# Altium schematic symbol library CUSTOM TNY290PG.SchLib: 175 symbols (part 2 of 3)
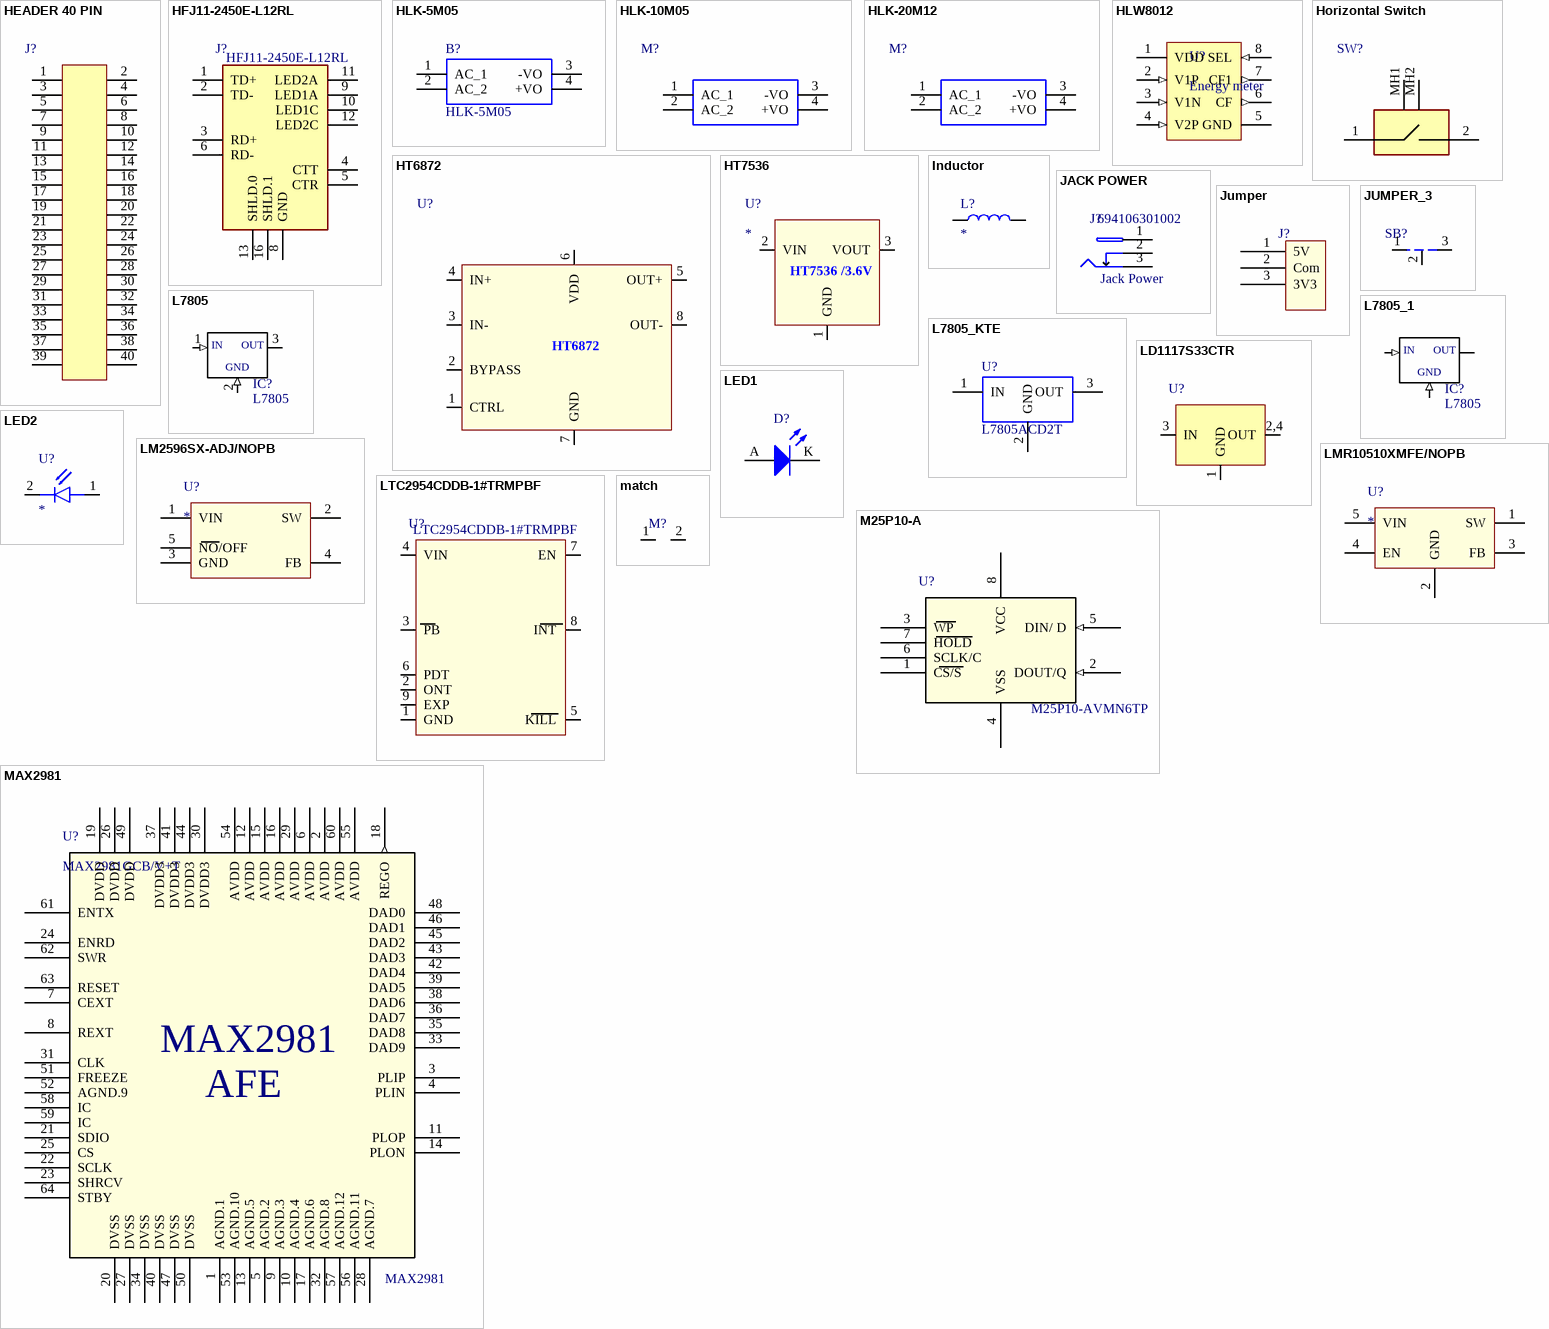
[diagram p7: symbols HEADER 40 PIN to MAX2981]

## JACK POWER
designator J?  Manufacturer Part Number: 694106301002  Connector Type: Jack Power
CONN PWR JACK 2.1X5.5MM SOLDER; Manufacturer: Wurth Electronics; Gender: Male; Shielding: Unshielded; Current Rating: 5A; Voltage Rating: 24V; Insulation Resistance: 100MR; Voltage Rating (DC): 20V; Supplier 1: Digi-Key; Stock 1: 3331; Pricing 1: 1=0.96, 10=0.908, 50=0.811, 100=0.746, 500=0.648, 1000=0.551 (USD); Mount: Through Hole; Contact Plating: Tin; Color: Black; Contact Material: Copper Alloy; Housing Material: Polyamide; Min Operating Temperature: -40°C; Max Operating Temperature: 85°C; Packaging: Bulk; Termination: Through Hole; Contact Gender: Female; Package Quantity: 500; REACH SVHC: Unknown; Flammability Rating: UL94 V-0; ComponentLink1URL: https://katalog.we-online.de/em/datasheet/6941xx301002.pdf?src-supplier=Digi-Key; ComponentLink1Description: https://katalog.we-online.de/em/datasheet/6941xx301002.pdf?src-supplier=Digi-Key; ComponentLink2URL: http://www.farnell.com/cad/2130967.pdf?src-supplier=Element14; ComponentLink2Description: http://www.farnell.com/cad/2130967.pdf?src-supplier=Element14; ComponentLink3URL: http://www.mouser.com/ds/2/445/6941xx301002-469315.pdf?src-supplier=Mouser; ComponentLink3Description: http://www.mouser.com/ds/2/445/6941xx301002-469315.pdf?src-supplier=Mouser; Supplier Part Number 1: 732-5930-ND
footprint 12V_PWR JACK (2.5 mm DC female jack)
pins: 1, 2, 3

## Jumper
designator J?
footprint Jumper (Chip Capacitor, Body 2.0x1.3mm, IPC High Density)
pins: 1 5V, 2 Com, 3 3V3

## JUMPER_3
designator SB?
footprint RESC0603-JUMPER_3
pins: 1, 2, 3

## L7805
designator IC?
MF: STMicroelectronics; Price: None; MP: L7805; SnapEDA_Link: https://www.snapeda.com/parts/L7805/STMicroelectronics/view-part/?ref=snap; Availability: Unavailable; Package: None; Value: *
footprint L7805
pins: 1 IN (in), 2 GND (in), 3 OUT

## L7805_1
designator IC?, comment L7805
MF: STMicroelectronics; Availability: Unavailable; Price: None; Package: None; MP: L7805; SnapEDA_Link: https://www.snapeda.com/parts/L7805/STMicroelectronics/view-part/?ref=snap; Value: *
footprint L7805
pins: 1 IN (in), 2 GND (in), 3 OUT

## L7805_KTE
designator U?, comment L7805ACD2T
Linear Voltage Regulators 5.0V 1.0A Positive; Mfr. No: L7805; Value: 5V Regulator; Package: KTE
footprint L7805_KTE
pins: 1 IN, 2 GND, 3 OUT

## LD1117S33CTR
designator U?
LDO Voltage Regulators 3.3V 0.8A Positive; Manufacturer 1: STMicroelectronics; Manufacturer Part Number 1: LD1117S33CTR; Accuracy: 1%; Input Bias Current: 5mA; Number of Regulators: 1; Quiescent Current: 10mA; Power Dissipation: 12W; Output Current: 950mA; Min Input Voltage: 5.3V; Dropout Voltage: 1.1V; Max Output Current: 1.3A; Max Input Voltage: 15V; Output Type: Fixed; Supplier 1: Digi-Key; RoHS: Yes; Category: Voltage Regulators - Linear; Stock 1: 40691; Pricing 1: 1=0.41000, 10=0.35100, 25=0.32720, 100=0.24310, 250=0.20572, 500=0.19636, 1000=0.14493 (USD); Mount: Surface Mount; Case/Package: SOT-223; Number of Pins: 4; Weight: 0.01lb; Contact Plating: Tin,Matte; Number of Terminals: 4; Min Operating Temperature: -40°C; Max Operating Temperature: 125°C; Output Voltage Accuracy: 1%; Polarity: Positive; Min Output Voltage: 3.3V; Max Output Voltage: 3.3V; Termination: SMD/SMT; Number of Outputs: 1; Output Voltage: 3.3V; Packaging: Tape and Reel; Nominal Output Voltage: 3.3V; Package Quantity: 1; Max Power Dissipation: 12W; Max Supply Voltage: 15V; Min Supply Voltage: 3.3V; Length: 6.5mm; Height: 1.8mm; Width: 3.5mm; Radiation Hardening: No; Lead Free: Lead Free; REACH SVHC: No SVHC; ComponentLink1URL: https://datasheet.ciiva.com/19480/1390223-19480586.pdf?src-supplier=Jameco; ComponentLink1Description: https://datasheet.ciiva.com/19480/1390223-19480586.pdf?src-supplier=Jameco; ComponentLink2URL: https://datasheet.ciiva.com/1511/1776449-1511572.pdf?src-supplier=Element14; ComponentLink2Description: https://datasheet.ciiva.com/1511/1776449-1511572.pdf?src-supplier=Element14; ComponentLink3URL: https://datasheet.ciiva.com/7992/1776449-7992620.pdf?src-supplier=Element14; ComponentLink3Description: https://datasheet.ciiva.com/7992/1776449-7992620.pdf?src-supplier=Element14; ComponentLink4URL: https://datasheet.ciiva.com/2041/cd00000544-2041934.pdf?src-supplier=Digi-Key; ComponentLink4Description: https://datasheet.ciiva.com/2041/cd00000544-2041934.pdf?src-supplier=Digi-Key; ComponentLink5URL: https://datasheet.ciiva.com/16392/cd00000544-16392069.pdf?src-supplier=Future+Electronics; ComponentLink5Description: https://datasheet.ciiva.com/16392/cd00000544-16392069.pdf?src-supplier=Future+Electronics; ComponentLink6URL: https://datasheet.ciiva.com/2041/cd00000544-2041932.pdf?src-supplier=Digi-Key; ComponentLink6Description: https://datasheet.ciiva.com/2041/cd00000544-2041932.pdf?src-supplier=Digi-Key; ComponentLink7URL: https://datasheet.ciiva.com/2041/cd00000544-2041933.pdf?src-supplier=Digi-Key; ComponentLink7Description: https://datasheet.ciiva.com/2041/cd00000544-2041933.pdf?src-supplier=Digi-Key; Supplier Part Number 1: 497-1241-1-ND
footprint AMS1117 (SOT223)
pins: 1 GND, 2 OUT, 3 IN, 4
text: 2,4

## LED1
designator D?
Typical RED GaAs LED; Published: 8-Jun-2000; LatestRevisionDate: 08-Jul-2005; LatestRevisionNote: Mech Layer 1 removed.; PackageReference: LED-1; Publisher: Altium Limited; PackageDescription: LED; 2 Leads
simulation model LED1 (Diode)
footprint LED_0603 ((1608) Metric)
pins: A, K

## LED2
designator U?
pins: 1 A, 2 K

## LM2596SX-ADJ/NOPB
designator U?
Buck Switching Regulator IC Positive Adjustable 1.2V 1 Output 3A TO-263-6, D²Pak (5 Leads + Tab), TO-263BA; Manufacturer: TI National Semiconductor; Manufacturer Part Number: LM2596SX-ADJ/NOPB; Number of Outputs: 1; Output Voltage: 37V; Min Input Voltage: 4.5V; Max Input Voltage: 40V; Switching Frequency: 173kHz; Efficiency: 73%; Synchronous Rectifier: No; Quiescent Current: 5mA; Supplier 1: Digi-Key; Stock 1: 1988; Pricing 1: 1=4.91, 10=4.413, 100=3.4299 (USD); Mount: Surface Mount; Case/Package: TO-263-5; Number of Pins: 5; Weight: 0.056128oz; Contact Plating: Tin,Matte; Min Operating Temperature: -40°C; Max Operating Temperature: 125°C; Package Quantity: 500; Max Output Current: 3A; Operating Supply Voltage: 40V; Output Current: 3A; Packaging: Tape and Reel; Min Supply Voltage: 4.5V; Min Output Voltage: 1.2V; Max Output Voltage: 37V; Output Type: Adjustable; Output Configuration: Positive; Length: 0.25inch; Height: 0.25inch; Width: 0.25inch; Radiation Hardening: No; Lead Free: Contains Lead; REACH SVHC: No SVHC; ComponentLink1URL: http://www.farnell.com/datasheets/1768026.pdf?src-supplier=Farnell; ComponentLink1Description: http://www.farnell.com/datasheets/1768026.pdf?src-supplier=Farnell; ComponentLink2URL: http://www.farnell.com/datasheets/1874590.pdf?src-supplier=Element14; ComponentLink2Description: http://www.farnell.com/datasheets/1874590.pdf?src-supplier=Element14; ComponentLink3URL: http://www.farnell.com/datasheets/1768026.pdf?src-supplier=Element14; ComponentLink3Description: http://www.farnell.com/datasheets/1768026.pdf?src-supplier=Element14; ComponentLink4URL: http://www.ti.com/lit/ds/symlink/lm2596.pdf?src-supplier=Digi-Key; ComponentLink4Description: http://www.ti.com/lit/ds/symlink/lm2596.pdf?src-supplier=Digi-Key; Supplier Part Number 1: 296-35399-1-ND
footprint TO-263
pins: 1 VIN, 2 SW, 3 GND, 4 FB, 5 NO/OFF

## LMR10510XMFE/NOPB
designator U?
3V-5.5Vin, 600mV-4.5Vout, 1Aout, SOT-23-5; Manufacturer: Texas Instruments; Manufacturer Part Number: LMR10510XMFE/NOPB; Max Input Voltage: 5.5V; Output Voltage: 4.5V; Min Input Voltage: 3V; Number of Outputs: 1; Switching Frequency: 1.6MHz; Max Output Current: 1A; Min Output Voltage: 600mV; Quiescent Current: 3.3mA; Output Type: Adjustable; Supplier 1: Mouser; Stock 1: 1253; Pricing 1: 1=1.33, 10=1.13, 100=0.871, 500=0.77, 1000=0.608, 2500=0.539, 10000=0.519, 25000=0.503, 50000=0.487 (USD); Mount: Surface Mount; Case/Package: SOT-23; Number of Pins: 5; Min Operating Temperature: -40°C; Max Operating Temperature: 125°C; Packaging: Tape and Reel; Max Output Voltage: 4.5V; Output Current: 1A; Package Quantity: 250; Length: 3.05mm; Height: 1.3mm; Width: 1.75mm; REACH SVHC: No SVHC; Lead Free: Lead Free; ComponentLink1URL: http://www.farnell.com/datasheets/1882450.pdf?src-supplier=Element14; ComponentLink1Description: http://www.farnell.com/datasheets/1882450.pdf?src-supplier=Element14; Supplier Part Number 1: 926-LMR10510XMFENOPB
pins: 1 SW, 2 GND, 3 FB, 4 EN, 5 VIN

## LTC2954CDDB-1#TRMPBF
designator U?  Manufacturer Part Number: LTC2954CDDB-1#TRMPBF
IC PUSH BUTTON ON/OFF CTRLR DFN-8; Manufacturer 1: Analog Devices / Linear Technology; Operating Supply Current: 6uA; Supplier 1: Digi-Key; RoHS: Yes; Category: Voltage Supervisors; Stock 1: 3877; Pricing 1: 1=4.56000, 25=2.59000, 100=2.52300 (USD); Case/Package: DFN-8; Number of Pins: 8; Min Operating Temperature: 0°C; Max Operating Temperature: 70°C; Package Quantity: 500; Packaging: Tape and Reel; Radiation Hardening: No; Lead Free: Lead Free; ComponentLink1URL: https://datasheet.ciiva.com/15134/getdatasheetpartid-369007-15134872.pdf?src-supplier=Verical; ComponentLink1Description: https://datasheet.ciiva.com/15134/getdatasheetpartid-369007-15134872.pdf?src-supplier=Verical; ComponentLink2URL: https://datasheet.ciiva.com/1967/16598-1967282.pdf?src-supplier=Digi-Key; ComponentLink2Description: https://datasheet.ciiva.com/1967/16598-1967282.pdf?src-supplier=Digi-Key; ComponentLink3URL: https://datasheet.ciiva.com/1967/16598-1967283.pdf?src-supplier=Digi-Key; ComponentLink3Description: https://datasheet.ciiva.com/1967/16598-1967283.pdf?src-supplier=Digi-Key; ComponentLink4URL: https://datasheet.ciiva.com/1967/16598-1967284.pdf?src-supplier=Digi-Key; ComponentLink4Description: https://datasheet.ciiva.com/1967/16598-1967284.pdf?src-supplier=Digi-Key; ComponentLink5URL: https://datasheet.ciiva.com/48696/001256188-da-01-en-ic-push-b-ltc2954cddb-1-trmpbf-dfn-8-ltc-48696487.pdf?src-supplier=Conrad; ComponentLink5Description: https://datasheet.ciiva.com/48696/001256188-da-01-en-ic-push-b-ltc2954cddb-1-trmpbf-dfn-8-ltc-48696487.pdf?src-supplier=Conrad; Supplier Part Number 1: LTC2954CDDB-1#TRMPBFCT-ND
pins: 1 GND, 2 ONT, 3 PB, 4 VIN, 5 KILL, 6 PDT, 7 EN, 8 INT, 9 EXP

## M25P10-A
designator U?  Manufacturer Part Number: M25P10-AVMN6TP
IC FLASH 1M SPI 50MHZ 8-SOIC; Manufacturer: Micron Technology; Memory Type: FLASH,NOR; Access Time: 8ns; Interface: SPI,Serial; Address Bus Width: 1b; Max Supply Voltage: 3.6V; Min Supply Voltage: 2.7V; Word Size: 8b; Number of Words: 128000; Nominal Supply Current: 8mA; Operating Supply Voltage: 3.3V; Density: 1Mb; Sync/Async: Synchronous; Voltage: 2.3V; Supplier 1: Digi-Key; Stock 1: 0; Number of Pins: 8; Min Operating Temperature: -40°C; Max Operating Temperature: 85°C; Packaging: Tape and Reel; Package Quantity: 1; Frequency: 50MHz; Radiation Hardening: No; ComponentLink1URL: https://media.digikey.com/pdf/Data%20Sheets/Micron%20Technology%20Inc%20PDFs/M25P10-A.pdf?src-supplier=Digi-Key; ComponentLink1Description: https://media.digikey.com/pdf/Data%20Sheets/Micron%20Technology%20Inc%20PDFs/M25P10-A.pdf?src-supplier=Digi-Key; ComponentLink2URL: http://media.digikey.com/pdf/Data%20Sheets/Micron%20Technology%20Inc%20PDFs/M25P10-A.pdf?src-supplier=Digi-Key; ComponentLink2Description: http://media.digikey.com/pdf/Data%20Sheets/Micron%20Technology%20Inc%20PDFs/M25P10-A.pdf?src-supplier=Digi-Key; ComponentLink3URL: https://www.verical.com/server-webapp/html/getDatasheet?partID=308150&src-supplier=Verical; ComponentLink3Description: https://www.verical.com/server-webapp/html/getDatasheet?partID=308150&src-supplier=Verical; Case/Package: 8-SOIC; Supplier Part Number 1: M25P10-AVMN6TPDKR-ND
footprint 8-soic
pins: 1 CS/S, 2 DOUT/Q (in), 3 WP, 4 VSS, 5 DIN/ D (in), 6 SCLK/C, 7 HOLD, 8 VCC

## match
designator M?
footprint match
pins: 1, 2

## MAX2981
designator U?, comment MAX2981GCB/V+T  Manufacturer Part Number: MAX2981
Analog Front End - AFE AFE Txr for Powerline Comm; Manufacturer: Maxim; Max Supply Voltage: 3.6V; Min Supply Voltage: 3V; Interface: Serial; Logic Function: Transceiver; Number of Circuits: 1; Nominal Supply Current: 220mA; Max Power Dissipation: 2W; Number of Channels: 2; Max Frequency: 50MHz; Supplier 1: Digi-Key; Stock 1: 0; Case/Package: LQFP; Number of Pins: 64; Min Operating Temperature: -40°C; Max Operating Temperature: 105°C; Packaging: Tape and Reel; Package Quantity: 750; Radiation Hardening: No; ComponentLink1URL: http://www.maximintegrated.com/en/products/comms/powerline-networking/MAX2981.html?src-supplier=Mouser; ComponentLink1Description: http://www.maximintegrated.com/en/products/comms/powerline-networking/MAX2981.html?src-supplier=Mouser
footprint MAX2981_21-0083E-M
pins: 1 AGND.1 (power), 2 AVDD (power), 3 PLIP, 4 PLIN, 5 AGND.2 (power), 6 AVDD (power), 7 CEXT, 8 REXT, 9 AGND.3 (power), 10 AGND.4 (power), 11 PLOP, 12 AVDD (power), 13 AGND.5 (power), 14 PLON, 15 AVDD (power), 16 AVDD (power), 17 AGND.6 (power), 18 REGO (out), 19 DVDD (power), 20 DVSS (power), 21 SDIO, 22 SCLK, 23 SHRCV, 24 ENRD, 25 CS, 26 DVDD (power), 27 DVSS (power), 28 AGND.7 (power), 29 AVDD (power), 30 DVDD3 (power), 31 CLK, 32 AGND.8 (power), 33 DAD9, 34 DVSS (power), 35 DAD8, 36 DAD7, 37 DVDD3 (power), 38 DAD6, 39 DAD5, 40 DVSS (power), 41 DVDD3 (power), 42 DAD4, 43 DAD3, 44 DVDD3 (power), 45 DAD2, 46 DAD1, 47 DVSS (power), 48 DAD0, 49 DVDD (power), 50 DVSS (power), 51 FREEZE, 52 AGND.9 (power), 53 AGND.10 (power), 54 AVDD (power), 55 AVDD (power), 56 AGND.11 (power), 57 AGND.12 (power), 58 IC, 59 IC, 60 AVDD (power), 61 ENTX, 62 SWR, 63 RESET, 64 STBY
text: AFE

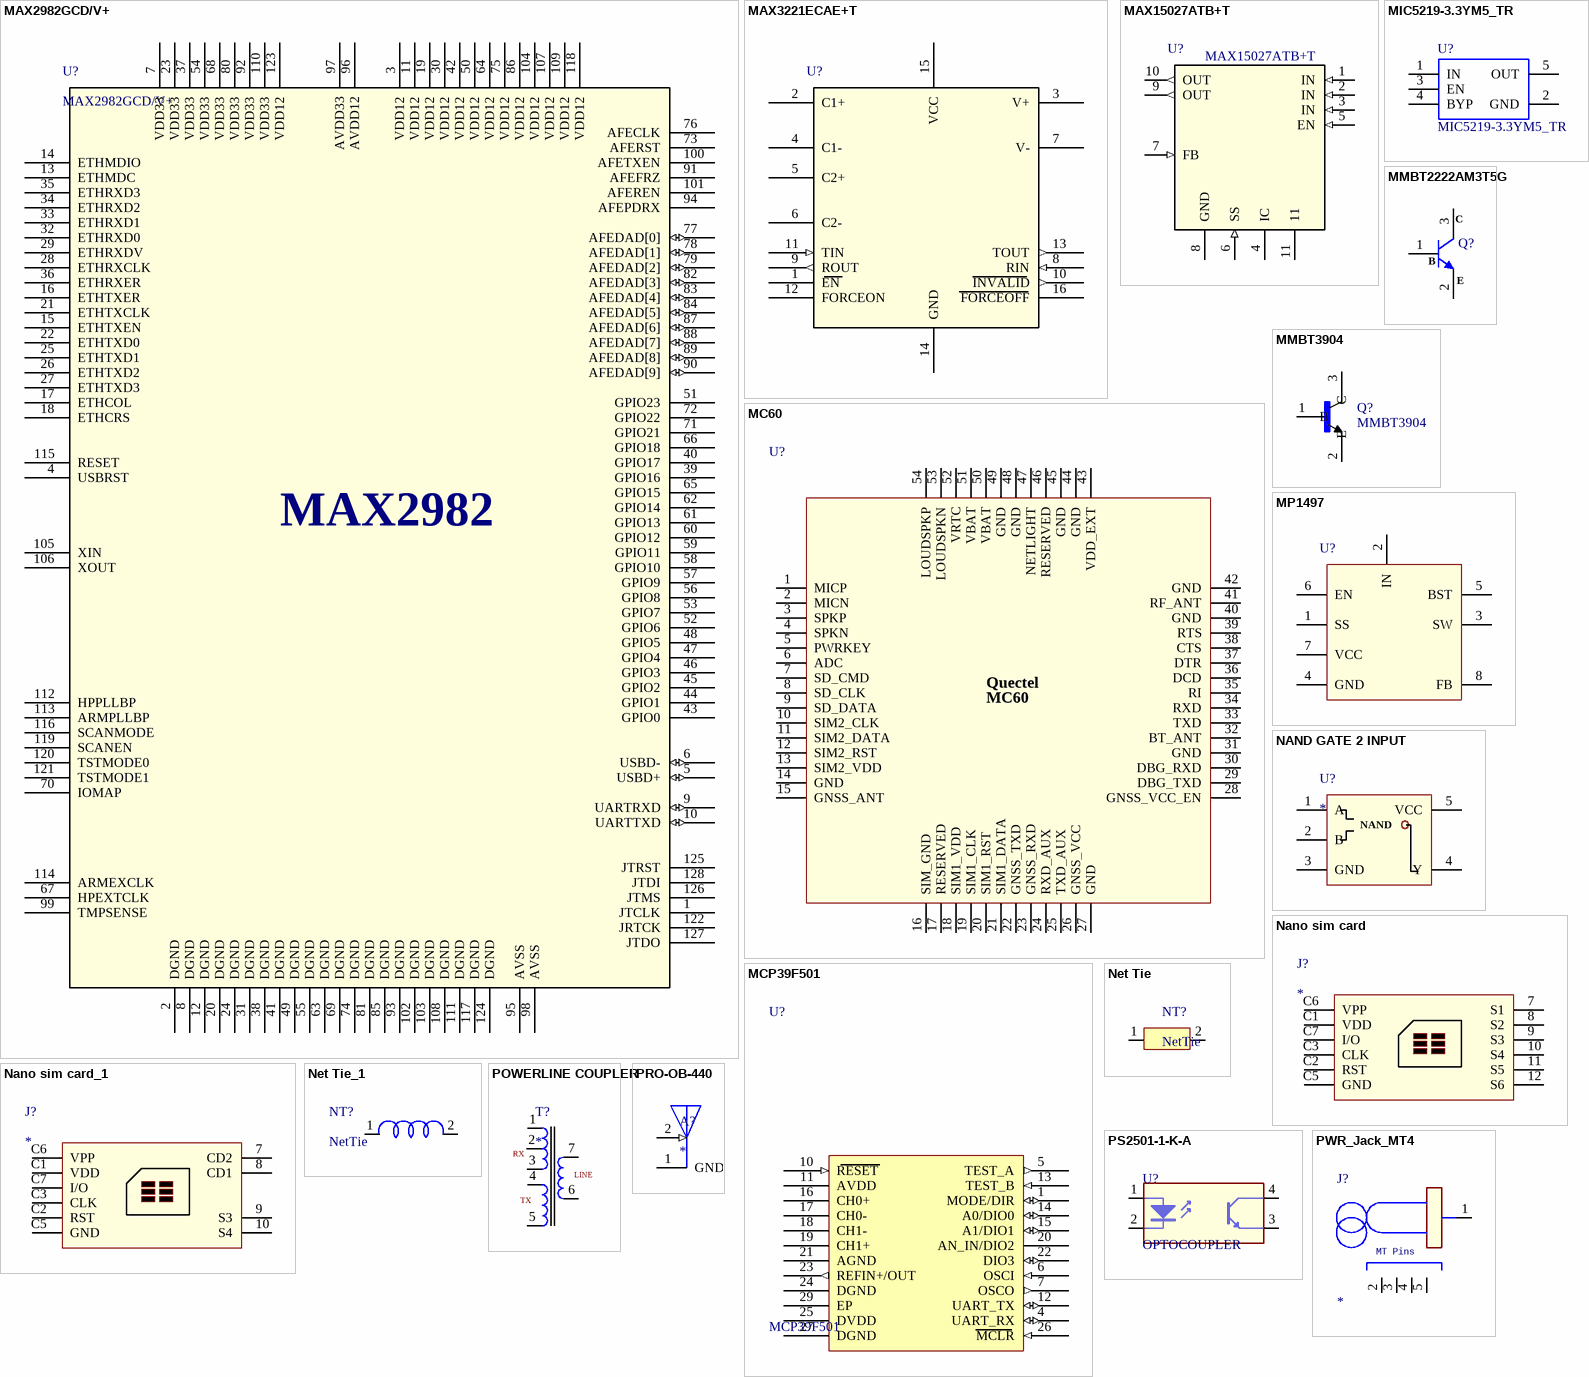
[diagram p3: symbols MAX2982GCD/V+ to PWR_Jack_MT4]

## MAX2982GCD/V+
designator U?
IC TXRX IBP MODEM 128-LQFP; Manufacturer: Maxim; Data Rate: 14Mbps; Supplier 1: Digi-Key; Manufacturer Part Number: MAX2982GCD/V+; Stock 1: 0; Case/Package: LQFP; Packaging: Rail/Tube; Package Quantity: 72; ComponentLink1URL: http://media.digikey.com/pdf/Data%20Sheets/Maxim%20PDFs/MAX2982.pdf?src-supplier=Digi-Key; ComponentLink1Description: http://media.digikey.com/pdf/Data%20Sheets/Maxim%20PDFs/MAX2982.pdf?src-supplier=Digi-Key; Supplier Part Number 1: MAX2982GCD/V+-ND
footprint MAX2982
pins: 1 JTCLK, 2 DGND (power), 3 VDD12 (power), 4 USBRST, 5 USBD+ (io), 6 USBD- (io), 7 VDD33 (power), 8 DGND (power), 9 UARTRXD (io), 10 UARTTXD (io), 11 VDD12 (power), 12 DGND (power), 13 ETHMDC, 14 ETHMDIO, 15 ETHTXEN, 16 ETHTXER, 17 ETHCOL, 18 ETHCRS, 19 VDD12 (power), 20 DGND (power), 21 ETHTXCLK, 22 ETHTXD0, 23 VDD33 (power), 24 DGND (power), 25 ETHTXD1, 26 ETHTXD2, 27 ETHTXD3, 28 ETHRXCLK, 29 ETHRXDV, 30 VDD12 (power), 31 DGND (power), 32 ETHRXD0, 33 ETHRXD1, 34 ETHRXD2, 35 ETHRXD3, 36 ETHRXER, 37 VDD33 (power), 38 DGND (power), 39 GPIO16, 40 GPIO17, 41 DGND (power), 42 VDD12 (power), 43 GPIO0, 44 GPIO1, 45 GPIO2, 46 GPIO3, 47 GPIO4, 48 GPIO5, 49 DGND (power), 50 VDD12 (power), 51 GPIO23, 52 GPIO6, 53 GPIO7, 54 VDD33 (power), 55 DGND (power), 56 GPIO8, 57 GPIO9, 58 GPIO10, 59 GPIO11, 60 GPIO12, 61 GPIO13, 62 GPIO14, 63 DGND (power), 64 VDD12 (power), 65 GPIO15, 66 GPIO18, 67 HPEXTCLK, 68 VDD33 (power), 69 DGND (power), 70 IOMAP, 71 GPIO21, 72 GPIO22, 73 AFERST, 74 DGND (power), 75 VDD12 (power), 76 AFECLK, 77 AFEDAD[0] (io), 78 AFEDAD[1] (io), 79 AFEDAD[2] (io), 80 VDD33 (power), 81 DGND (power), 82 AFEDAD[3] (io), 83 AFEDAD[4] (io), 84 AFEDAD[5] (io), 85 DGND (power), 86 VDD12 (power), 87 AFEDAD[6] (io), 88 AFEDAD[7] (io), 89 AFEDAD[8] (io), 90 AFEDAD[9] (io), 91 AFEFRZ, 92 VDD33 (power), 93 DGND (power), 94 AFEPDRX, 95 AVSS (power), 96 AVDD12 (power), 97 AVDD33 (power), 98 AVSS (power), 99 TMPSENSE, 100 AFETXEN, 101 AFEREN, 102 DGND (power), 103 DGND (power), 104 VDD12 (power), 105 XIN, 106 XOUT, 107 VDD12 (power), 108 DGND (power), 109 VDD12 (power), 110 VDD33 (power), 111 DGND (power), 112 HPPLLBP, 113 ARMPLLBP, 114 ARMEXCLK, 115 RESET, 116 SCANMODE, 117 DGND (power), 118 VDD12 (power), 119 SCANEN, 120 TSTMODE0, 121 TSTMODE1, 122 JRTCK, 123 VDD12 (power), 124 DGND (power), 125 JTRST, 126 JTMS, 127 JTDO, 128 JTDI
text: MAX2982

## MAX3221ECAE+T
designator U?
IC TXRX RS-232 W/SHTDWN 16SSOP; Manufacturer: Maxim; Manufacturer Part Number: MAX3221ECAE+T; Data Rate: 250Kbps; Nominal Supply Current: 1mA; Number of I/Os: 4; Propagation Delay: 0.3us; Number of Receivers: 1; Logic Function: Transceiver,Receiver; Min Supply Voltage: 3V; Max Supply Voltage: 5.5V; Simplex/Duplex: Full Duplex; Receiver Hysteresis: 500mV; Supplier 1: Digi-Key; Stock 1: 3995; Pricing 1: 1=4.61, 10=4.12, 25=3.708, 100=3.3784, 250=3.0488, 500=2.7357, 1000=2.3072 (USD); Mount: Surface Mount; Case/Package: 16-SSOP; Number of Pins: 16; Contact Plating: Tin,Matte; Min Operating Temperature: 0°C; Max Operating Temperature: 70°C; Packaging: Cut Tape; Package Quantity: 2000; Number of Transmitters: 1; Number of Drivers: 1; Number of Transceivers: 1; Interface: RS-232; Radiation Hardening: No; REACH SVHC: Unknown; Lead Free: Lead Free; ComponentLink1URL: https://media.digikey.com/pdf/Data%20Sheets/Maxim%20PDFs/PartNumberBreakdown_ds.pdf?src-supplier=Digi-Key; ComponentLink1Description: https://media.digikey.com/pdf/Data%20Sheets/Maxim%20PDFs/PartNumberBreakdown_ds.pdf?src-supplier=Digi-Key; ComponentLink2URL: http://datasheets.maxim-ic.com/en/ds/MAX3221E-MAX3243E.pdf?src-supplier=Avnet+Europe; ComponentLink2Description: http://datasheets.maxim-ic.com/en/ds/MAX3221E-MAX3243E.pdf?src-supplier=Avnet+Europe; ComponentLink3URL: http://avnetexpress.avnet.com/store/em/EMController/Bus-Line-Transceiver/Maxim-Integrated/MAX3221ECAE-T/_/R-2407737/A-2407737/Check?src-supplier=Avnet; ComponentLink3Description: http://avnetexpress.avnet.com/store/em/EMController/Bus-Line-Transceiver/Maxim-Integrated/MAX3221ECAE-T/_/R-2407737/A-2407737/Check?src-supplier=Avnet; ComponentLink4URL: http://datasheets.maxim-ic.com/en/ds/MAX3221E-MAX3243E.pdf?src-supplier=Avnet; ComponentLink4Description: http://datasheets.maxim-ic.com/en/ds/MAX3221E-MAX3243E.pdf?src-supplier=Avnet; Supplier Part Number 1: MAX3221ECAE+TCT-ND
footprint 16-ssop
pins: 1 EN, 2 C1+, 3 V+, 4 C1-, 5 C2+, 6 C2-, 7 V-, 8 RIN (in), 9 ROUT (out), 10 INVALID (out), 11 TIN (in), 12 FORCEON, 13 TOUT (out), 14 GND, 15 VCC (power), 16 FORCEOFF

## MAX15027ATB+T
designator U?  Manufacturer Part Number: MAX15027ATB+T
IC REG LINEAR POS ADJ 1A 10TDFN; Manufacturer: Maxim; Max Input Voltage: 3.6V; Min Input Voltage: 1.425V; Output Voltage: 3.3V; Number of Outputs: 1; Max Power Dissipation: 1.951W; Dropout Voltage: 75mV; Min Current Limit: 1.4A; Polarity: Positive; Quiescent Current: 470uA; Min Output Voltage: 500mV; Output Type: Adjustable; Supplier 1: Digi-Key; Stock 1: 198; Pricing 1: 1=2.87, 10=2.579, 25=2.4332, 100=2.0732, 250=1.9467, 500=1.7034, 1000=1.4114 (USD); Mount: Surface Mount; Number of Pins: 10; Contact Plating: Tin,Matte; Min Operating Temperature: -40°C; Max Operating Temperature: 125°C; Output Current: 1A; Packaging: Tape and Reel; Max Output Current: 1A; Package Quantity: 1; Number of Regulators: 1; Max Output Voltage: 3.3V; Case/Package: 10-WFDFN; Radiation Hardening: No; REACH SVHC: Unknown; ComponentLink1URL: http://www.mouser.com/ds/2/256/MAX15027-MAX15028-101007.pdf?src-supplier=Mouser; ComponentLink1Description: http://www.mouser.com/ds/2/256/MAX15027-MAX15028-101007.pdf?src-supplier=Mouser; ComponentLink2URL: http://datasheets.maximintegrated.com/en/ds/MAX15027-MAX15028.pdf?src-supplier=Digi-Key; ComponentLink2Description: http://datasheets.maximintegrated.com/en/ds/MAX15027-MAX15028.pdf?src-supplier=Digi-Key; ComponentLink3URL: http://datasheets.maximintegrated.com/en/ds/MAX15027-MAX15028.pdf?src-supplier=Avnet; ComponentLink3Description: http://datasheets.maximintegrated.com/en/ds/MAX15027-MAX15028.pdf?src-supplier=Avnet; ComponentLink4URL: https://datasheets.maximintegrated.com/en/ds/MAX15027-MAX15028.pdf?src-supplier=Digi-Key; ComponentLink4Description: https://datasheets.maximintegrated.com/en/ds/MAX15027-MAX15028.pdf?src-supplier=Digi-Key; Supplier Part Number 1: MAX15027ATB+TCT-ND
footprint 10TDFN
pins: 1 IN (in), 2 IN (in), 3 IN (in), 4 IC, 5 EN (in), 6 SS (in), 7 FB (in), 8 GND (power), 9 OUT (out), 10 OUT (out), 11

## MC60
designator U?  (value not drawn)
Quectel MC60 GSM/GPRS/GNSS Module, Bluetooth BT3.0; Manufacturer Part Number: MC60; Case/Package: SMD
pins: 1 MICP, 2 MICN, 3 SPKP, 4 SPKN, 5 PWRKEY, 6 ADC, 7 SD_CMD, 8 SD_CLK, 9 SD_DATA, 10 SIM2_CLK, 11 SIM2_DATA, 12 SIM2_RST, 13 SIM2_VDD, 14 GND, 15 GNSS_ANT, 16 SIM_GND, 17 RESERVED, 18 SIM1_VDD, 19 SIM1_CLK, 20 SIM1_RST, 21 SIM1_DATA, 22 GNSS_TXD, 23 GNSS_RXD, 24 RXD_AUX, 25 TXD_AUX, 26 GNSS_VCC, 27 GND, 28 GNSS_VCC_EN, 29 DBG_TXD, 30 DBG_RXD, 31 GND, 32 BT_ANT, 33 TXD, 34 RXD, 35 RI, 36 DCD, 37 DTR, 38 CTS, 39 RTS, 40 GND, 41 RF_ANT, 42 GND, 43 VDD_EXT, 44 GND, 45 GND, 46 RESERVED, 47 NETLIGHT, 48 GND, 49 GND, 50 VBAT, 51 VBAT, 52 VRTC, 53 LOUDSPKN, 54 LOUDSPKP
text: Quectel

## MCP39F501
designator U?
Power Management Specialised - PMIC Single-Phase Power-Monitoring IC; Package: QFN-28; Mfr. No: MCP39F501; Value: MCP39F501
footprint MCP39F501 (Power Management Specialised - PMIC Single-Phase Power-Monitoring IC)
pins: 1 MODE/DIR (io), 4 UART_RX (io), 5 TEST_A (out), 6 OSCI (in), 7 OSCO (out), 10 RESET (in), 11 AVDD (power), 12 UART_TX (io), 13 TEST_B (in), 14 A0/DIO0 (io), 15 A1/DIO1 (io), 16 CH0+ (power), 17 CH0-, 18 CH1-, 19 CH1+, 20 AN_IN/DIO2, 21 AGND (power), 22 DIO3 (io), 23 REFIN+/OUT (out), 24 DGND (power), 25 DVDD, 26 MCLR (in), 27 DGND (power), 29 EP (power)

## MIC5219-3.3YM5_TR
designator U?
LDO Regulator Pos 3.3V 0.5A MIC5219-3.3YM5 TR, Low Dropout Voltage Regulator, 0.5A, 3.3 V ??1%, 2.5 ??? 12 Vin, 5-Pin SOT-23; Manufacturer_Name: Micrel; Allied_Number: R1033592; Geometry.Height: 1.45mm; Manufacturer_Part_Number: MIC5219-3.3YM5 TR; Mouser Part Number: *; Mouser Price/Stock: *; RS Part Number: 7272524P; RS Price/Stock: http://uk.rs-online.com/web/p/products/7272524P; Allied Price/Stock: http://www.alliedelec.com/micrel-inc-mic5219-3-3ym5-tr/R1033592/; Datasheet Link: http://docs-emea.rs-online.com/webdocs/1385/0900766b8138542f.pdf
footprint SOT95P280X145-5N_MIC5219-3.3YM5
pins: 1 IN, 2 GND, 3 EN, 4 BYP, 5 OUT

## MMBT2222AM3T5G
designator Q?
ComponentLink1Description: Manufacturer Link; ComponentLink1URL: http://www.fairchildsemi.com/; ComponentLink2Description: Datasheet; ComponentLink2URL: http://www.fairchildsemi.com/ds/2N%2F2N3904.pdf
simulation model 2N3904 (NPN)
signal-integrity model 2N3904
pins: 1 B, 2 E, 3 C

## MMBT3904
designator Q?
SOT-23, 60V, 0.2A, NPN Bipolar Transistor; MF: STMicroelectronics; Availability: Unavailable; Package: SOT-23-3 Taiwan Semiconductor; SnapEDA_Link: https://www.snapeda.com/parts/MMBT3904/STMicroelectronics/view-part/?ref=snap; MP: MMBT3904; Price: None; Value: *
footprint SOT23_MMB3904
pins: 1 B, 2 E, 3 C

## MP1497
designator U?
footprint TSOT23-8
pins: 1 SS, 2 IN, 3 SW, 4 GND, 5 BST, 6 EN, 7 VCC, 8 FB

## NAND GATE 2 INPUT
designator U?
Manufacturer: ON Semiconductor / Fairchild; Manufacturer Part Number: NC7S00M5X; Max Supply Voltage: 6V; Min Supply Voltage: 2V; High Level Output Current: -2.6mA; Low Level Output Current: 2.6mA; Propagation Delay: 12.2ns; Number of Gates: 1; Logic Function: NAND; Quiescent Current: 1uA; Number of Inputs: 2; Turn-On Delay Time: 100ns; Supplier 1: Mouser; Stock 1: 16117; Pricing 1: 1=0.49, 10=0.318, 50=0.318, 100=0.136, 1000=0.104, 3000=0.079, 9000=0.07, 10000=0.07, 24000=0.066, 45000=0.064 (USD); Mount: Surface Mount; Case/Package: SOT-23-5; Number of Pins: 5; Weight: 0.03g; Min Operating Temperature: -40°C; Max Operating Temperature: 85°C; Packaging: Tape and Reel; Number of Elements: 1; Number of Outputs: 1; Package Quantity: 1; Number of Circuits: 1; Output Current: 2.6mA; Radiation Hardening: No; REACH SVHC: No SVHC; Lead Free: Lead Free; ComponentLink1URL: https://www.onsemi.com/pub/Collateral/NC7S00-D.PDF?src-supplier=Digi-Key; ComponentLink1Description: https://www.onsemi.com/pub/Collateral/NC7S00-D.PDF?src-supplier=Digi-Key; ComponentLink2URL: https://www.fairchildsemi.com/datasheets/NC/NC7S00.pdf?src-supplier=Avnet; ComponentLink2Description: https://www.fairchildsemi.com/datasheets/NC/NC7S00.pdf?src-supplier=Avnet; ComponentLink3URL: http://www.fairchildsemi.com/ds/NC/NC7S00.pdf?src-supplier=Future+Electronics; ComponentLink3Description: http://www.fairchildsemi.com/ds/NC/NC7S00.pdf?src-supplier=Future+Electronics; ComponentLink4URL: http://www.farnell.com/datasheets/88771.pdf?src-supplier=Element14; ComponentLink4Description: http://www.farnell.com/datasheets/88771.pdf?src-supplier=Element14; ComponentLink5URL: http://www.fairchildsemi.com/ds/NC/NC7S00.pdf?src-supplier=Avnet+Europe; ComponentLink5Description: http://www.fairchildsemi.com/ds/NC/NC7S00.pdf?src-supplier=Avnet+Europe; ComponentLink6URL: https://www.verical.com/server-webapp/html/getDatasheet?partID=72609&src-supplier=Verical; ComponentLink6Description: https://www.verical.com/server-webapp/html/getDatasheet?partID=72609&src-supplier=Verical; ComponentLink7URL: http://www.fairchildsemi.com/datasheets/NC/NC7S00.pdf?src-supplier=Digi-Key; ComponentLink7Description: http://www.fairchildsemi.com/datasheets/NC/NC7S00.pdf?src-supplier=Digi-Key; Supplier Part Number 1: 512-NC7S00M5X
footprint SOT23-5
pins: 1 A, 2 B, 3 GND, 4 Y, 5 VCC

## Nano sim card
designator J?
Manufacturer: Wurth Electronics; Manufacturer Part Number: 693043020611; Number of Positions: 6; Connector Type: Connector; Supplier 1: Mouser; Stock 1: 7555; Pricing 1: 1=1.69, 10=1.66, 25=1.66, 50=1.54, 100=1.41, 250=1.41, 500=1.23, 1000=1.11 (USD); Mount: Surface Mount; Number of Pins: 6; Contact Material: Copper Alloy; Contact Plating: Gold; Packaging: Tape and Reel; Number of Contacts: 6; Features: Shielded; REACH SVHC: Unknown; Lead Free: Lead Free; ComponentLink1URL: https://www.distrelec.biz/Web/Downloads/40/13/693043020611.pdf?mime=application%2Fpdf&src-supplier=Distrelec; ComponentLink1Description: https://www.distrelec.biz/Web/Downloads/40/13/693043020611.pdf?mime=application%2Fpdf&src-supplier=Distrelec; ComponentLink2URL: https://katalog.we-online.de/em/datasheet/693043020611.pdf?src-supplier=Digi-Key; ComponentLink2Description: https://katalog.we-online.de/em/datasheet/693043020611.pdf?src-supplier=Digi-Key; ComponentLink3URL: http://www.farnell.com/cad/1889811.pdf?src-supplier=Element14; ComponentLink3Description: http://www.farnell.com/cad/1889811.pdf?src-supplier=Element14; Supplier Part Number 1: 710-693043020611
footprint Nano sim card connector
pins: 7 S1, 8 S2, 9 S3, 10 S4, 11 S5, 12 S6, C1 VDD, C2 RST, C3 CLK, C5 GND, C6 VPP, C7 I/O

## Nano sim card_1
designator J?
Standard Size Sim Holder MUP-C720 (Push-Push Lock Type); Manufacturer: MUP Industrial Co.; Manufacturer Part Number: MUP-C720; ComponentLink1URL: https://www.distrelec.biz/Web/Downloads/40/13/693043020611.pdf?mime=application%2Fpdf&src-supplier=Distrelec; ComponentLink1Description: https://www.distrelec.biz/Web/Downloads/40/13/693043020611.pdf?mime=application%2Fpdf&src-supplier=Distrelec; ComponentLink2URL: https://katalog.we-online.de/em/datasheet/693043020611.pdf?src-supplier=Digi-Key; ComponentLink2Description: https://katalog.we-online.de/em/datasheet/693043020611.pdf?src-supplier=Digi-Key; ComponentLink3URL: http://www.farnell.com/cad/1889811.pdf?src-supplier=Element14; ComponentLink3Description: http://www.farnell.com/cad/1889811.pdf?src-supplier=Element14
footprint MUP-C720
pins: 7 CD2, 8 CD1, 9 S3, 10 S4, C1 VDD, C2 RST, C3 CLK, C5 GND, C6 VPP, C7 I/O

## Net Tie
designator NT?, comment NetTie  (net tie, no BOM)
footprint Net_Tie
pins: 1, 2

## Net Tie_1
designator NT?, comment NetTie  (net tie, no BOM)
footprint coil_50mm
pins: 1, 2

## POWERLINE COUPLER
designator T?
pins: 1, 2, 3, 4, 5, 6, 7
text: RX; LINE; TX

## PRO-OB-440
designator A?
RF ANT 2.4GHZ STAMPED MET SLD; Manufacturer: Proant; Manufacturer Part Number: PRO-OB-440; Number of Bands: 1; Return Loss: -10dB; Supplier 1: Digi-Key; RoHS: No; Category: RF Antennas; Stock 1: 48124; Pricing 1: 1=0.74000, 10=0.64700, 25=0.60800, 100=0.49640, 250=0.46104, 500=0.39238 (USD); Mount: Surface Mount; Packaging: Cut Tape; Termination: Solder; ComponentLink1URL: https://media.digikey.com/pdf/Data%20Sheets/Proant%20PDF's/PRO-OB-440_Dwg.PDF?src-supplier=Digi-Key; ComponentLink1Description: https://media.digikey.com/pdf/Data%20Sheets/Proant%20PDF's/PRO-OB-440_Dwg.PDF?src-supplier=Digi-Key; ComponentLink2URL: http://www.proant.se/files/user/Application%20note%20-%20OnBoard%20SMD%20GNSS%20rev%202.0.pdf?src-supplier=Digi-Key; ComponentLink2Description: http://www.proant.se/files/user/Application%20note%20-%20OnBoard%20SMD%20GNSS%20rev%202.0.pdf?src-supplier=Digi-Key; ComponentLink3URL: http://www.proant.se/files/user/Documents/Datasheet%20-%20OnBoard%20SMD%202400%20MHz%20rev%203.pdf?src-supplier=Digi-Key; ComponentLink3Description: http://www.proant.se/files/user/Documents/Datasheet%20-%20OnBoard%20SMD%202400%20MHz%20rev%203.pdf?src-supplier=Digi-Key; Supplier Part Number 1: 1532-1001-1-ND
footprint ANT_PRO-OB-440
pins: 1 GND (power), 2 FEED (in)

## PS2501-1-K-A
designator U?, comment OPTOCOUPLER
Transistor Output Optocouplers Hi-Iso Photo 1-Ch; Manufacturer: Renesas; Manufacturer Part Number: PS2501-1K-A; Supplier 1: Mouser; Stock 1: 2409; Pricing 1: 1=0.55, 10=0.396, 50=0.396, 100=0.259, 1000=0.183, 2500=0.154, 10000=0.149, 25000=0.143, 50000=0.14, 100000=0.137 (USD); Case/Package: DIP-4; Number of Pins: 4; Supplier Part Number 1: 551-PS2501-1-K-A
footprint DIP-4 (DIP; 4 Leads; Row Spacing 7.62 mm; Pitch 2.54 mm)
pins: 1 A "Anode", 2 K "Cathode", 3 E "Emitter", 4 C "Collector"

## PWR_Jack_MT4
designator J?
pins: 1 (io), 2 (io), 3 (io), 4, 5
text: MT Pins

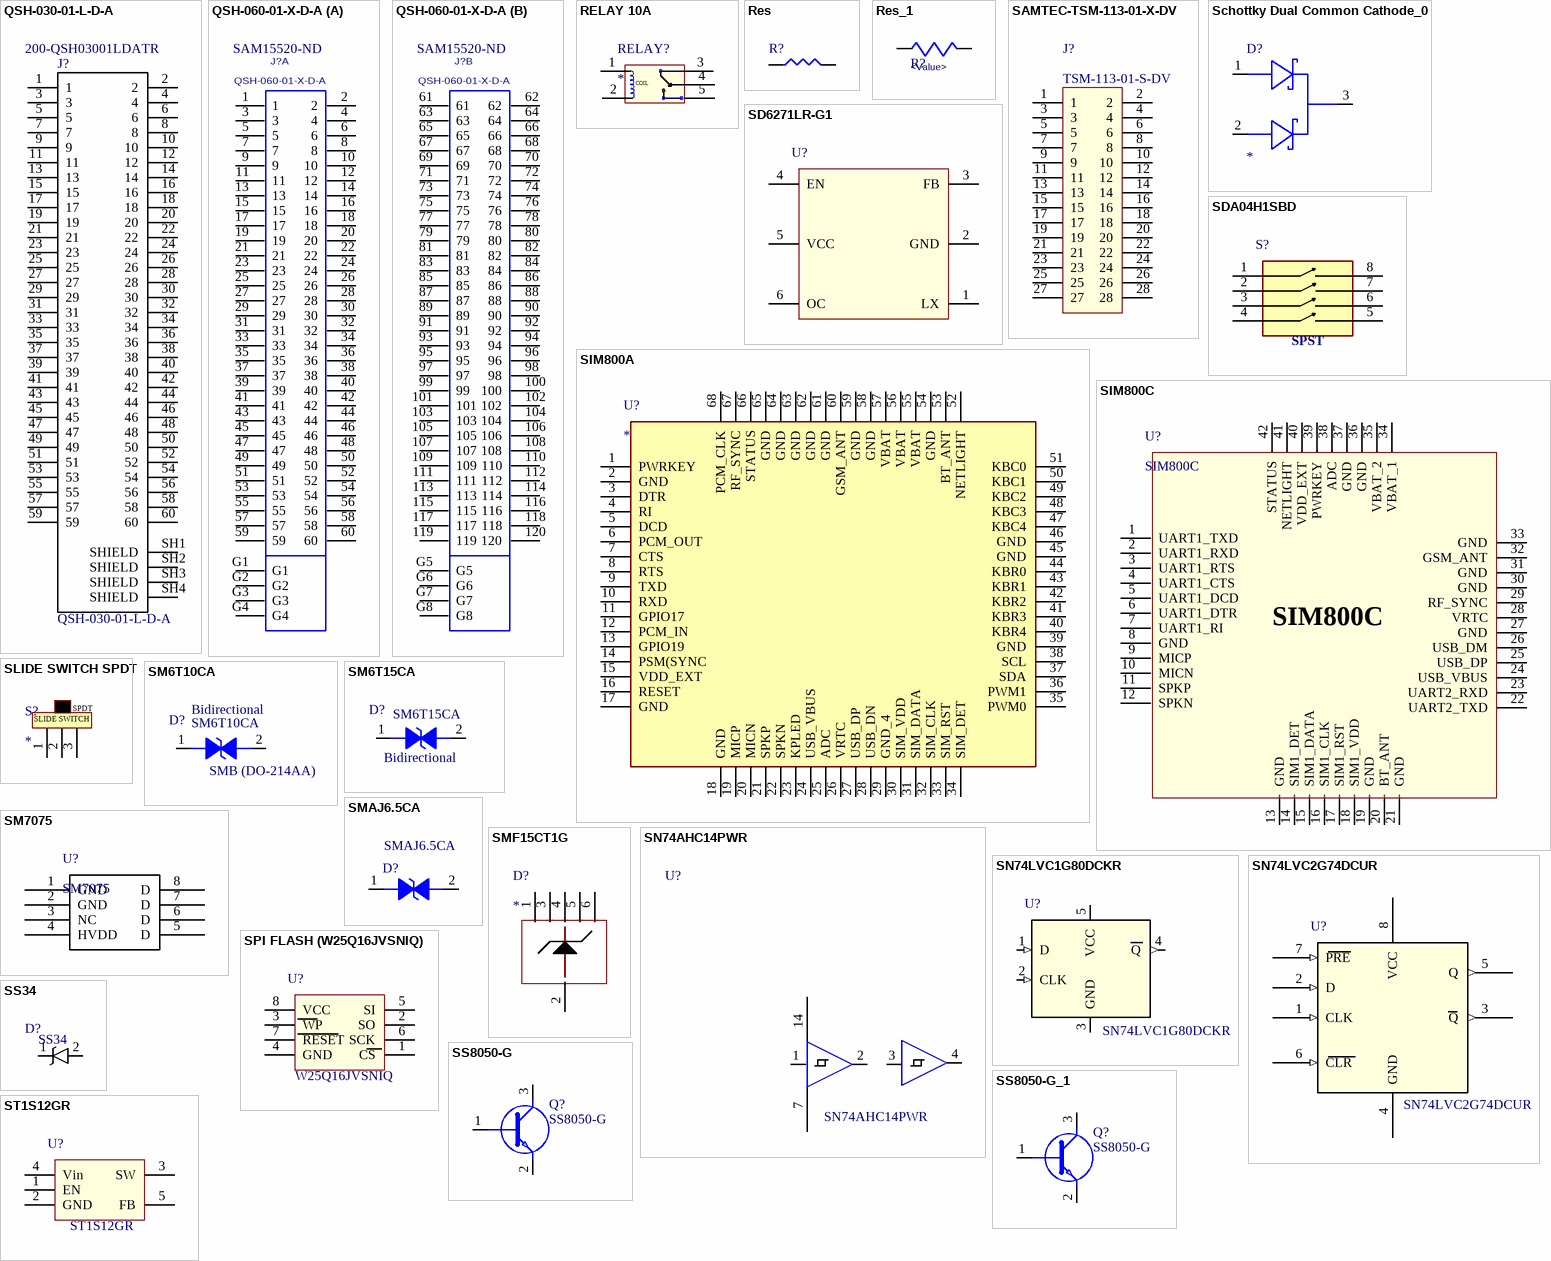
[diagram p4: symbols QSH-030-01-L-D-A to ST1S12GR]

## QSH-030-01-L-D-A
designator J?  Supplier Part Number 1: 200-QSH03001LDATR
Conn Micro High Speed Socket Strip SKT 60 POS 0.5mm Solder ST SMD T/R; Manufacturer: Samtec; Manufacturer Part Number: QSH-030-01-L-D-A-TR; Max Voltage Rating (AC): 125V; Number of Contacts: 60; Gender: Female; Supplier 1: Mouser; Stock 1: 471; Pricing 1: 1=9.52, 10=8.81, 50=7.9, 100=7.38, 1000=6.19, 10000=5.95 (USD); Contact Plating: Gold; Contact Material: Bronze; Housing Color: Black; Housing Material: Polymer; Min Operating Temperature: -55°C; Max Operating Temperature: 125°C; Number of Rows: 2; Packaging: Tape and Reel; Termination: Solder; Orientation: Straight; Voltage Rating (AC): 125V; Length: 21.27mm; Pitch: 0.5mm; Depth: 7.49mm; Radiation Hardening: No; Lead Free: Lead Free; ComponentLink1URL: http://www.samtec.com/ftppub/pdf/QSH.PDF?src-supplier=Avnet+Europe; ComponentLink1Description: http://www.samtec.com/ftppub/pdf/QSH.PDF?src-supplier=Avnet+Europe; ComponentLink2URL: https://www.samtec.com/ftppub/pdf/QSH.PDF?src-supplier=Avnet; ComponentLink2Description: https://www.samtec.com/ftppub/pdf/QSH.PDF?src-supplier=Avnet
footprint QSH-030-01-L-D-A
pins: 1, 2, 3, 4, 5, 6, 7, 8, 9, 10, 11, 12, 13, 14, 15, 16, 17, 18, 19, 20, 21, 22, 23, 24, 25, 26, 27, 28, 29, 30, 31, 32, 33, 34, 35, 36, 37, 38, 39, 40, 41, 42, 43, 44, 45, 46, 47, 48, 49, 50, 51, 52, 53, 54, 55, 56, 57, 58, 59, 60, SH1 SHIELD, SH2 SHIELD, SH3 SHIELD, SH4 SHIELD

## QSH-060-01-X-D-A
designator J?  Supplier Part Number 1: SAM15520-ND
HIGH SPEED SOCKET STRIP, .5mm PITCH, 60 PINS PER ROW; MANUFACTURER: SAMTEC; Manufacturer Part Number: QSH-060-01-H-D-A; Number of Contacts: 120; Max Voltage Rating (AC): 125V; Gender: Female; Pitch: 0.5mm; CREATED: March 10, 2015 - Wendy Xin; PCB DECAL: QSH-060-01-X-D-A; Supplier 1: Digi-Key; Stock 1: 12; Pricing 1: 1=13.19, 10=12.746, 25=12.306, 50=11.8666, 100=11.427, 250=11.2072, 500=10.9875 (USD); Contact Plating: Gold; Contact Material: Bronze; Housing Color: Black; Housing Material: Polymer; Min Operating Temperature: -55°C; Max Operating Temperature: 125°C; Number of Rows: 2; Packaging: Tray; Termination: Solder; Orientation: Straight; Length: 41.27mm; Depth: 7.49mm; Radiation Hardening: No; ComponentLink1URL: http://datasheet.octopart.com/QSH-060-01-H-D-A-Samtec-datasheet-97183482.pdf?src-supplier=Samtec; ComponentLink1Description: http://datasheet.octopart.com/QSH-060-01-H-D-A-Samtec-datasheet-97183482.pdf?src-supplier=Samtec; ComponentLink2URL: http://sigma.octopart.com/97183504/technical_drawing/Samtec-QSH-060-01-H-D-A.pdf?src-supplier=Samtec; ComponentLink2Description: http://sigma.octopart.com/97183504/technical_drawing/Samtec-QSH-060-01-H-D-A.pdf?src-supplier=Samtec
footprint QSH-060-01-X-D-A
part A pins: 1, 2, 3, 4, 5, 6, 7, 8, 9, 10, 11, 12, 13, 14, 15, 16, 17, 18, 19, 20, 21, 22, 23, 24, 25, 26, 27, 28, 29, 30, 31, 32, 33, 34, 35, 36, 37, 38, 39, 40, 41, 42, 43, 44, 45, 46, 47, 48, 49, 50, 51, 52, 53, 54, 55, 56, 57, 58, 59, 60, G1, G2, G3, G4
part B pins: 61, 62, 63, 64, 65, 66, 67, 68, 69, 70, 71, 72, 73, 74, 75, 76, 77, 78, 79, 80, 81, 82, 83, 84, 85, 86, 87, 88, 89, 90, 91, 92, 93, 94, 95, 96, 97, 98, 99, 100, 101, 102, 103, 104, 105, 106, 107, 108, 109, 110, 111, 112, 113, 114, 115, 116, 117, 118, 119, 120, G5, G6, G7, G8

## RELAY 10A
designator RELAY?
footprint RELAY 10A
pins: 1, 2, 3, 4, 5
text: COIL

## Res
designator R?
Case/Package: *; Value: *; Manufacturer Part Number: *
pins: 1, 2

## Res_1
designator R?, comment <Value>
-; Voltage: -; Current: -; Technology: -; Safety: -; Tolerance: -
pins: 1, 2

## SAMTEC-TSM-113-01-X-DV
designator J?  Manufacturer Part Number: TSM-113-01-S-DV
CONN HEADER SMD 26POS 2.54MM; Manufacturer: Samtec; Max Current Rating: 7A; Max Voltage Rating (AC): 475V; Number of Contacts: 26; Gender: Male; Connector Type: Male Pin; Row Spacing: 0.1inch; Stock 1: 0; Contact Plating: Brass; Contact Material: Bronze; Housing Color: Black; Housing Material: Polymer; Color: Black; Min Operating Temperature: -55°C; Max Operating Temperature: 125°C; Number of Rows: 2; Packaging: Rail/Tube; Termination: Solder; Orientation: Vertical; Number of Positions: 26; Package Quantity: 1; Length: 12.7mm; Pitch: 2.54mm; Depth: 5.08mm; Contact Mating Length: 0.23inch; Terminal Pitch: 2.54mm; Radiation Hardening: No; Lead Free: Lead Free; REACH SVHC: No SVHC; ComponentLink1URL: http://www.farnell.com/datasheets/1596308.pdf?src-supplier=Element14; ComponentLink1Description: http://www.farnell.com/datasheets/1596308.pdf?src-supplier=Element14; ComponentLink2URL: http://www.farnell.com/datasheets/1847330.pdf?src-supplier=Element14; ComponentLink2Description: http://www.farnell.com/datasheets/1847330.pdf?src-supplier=Element14; ComponentLink3URL: http://www.samtec.com/documents/webfiles/cpdf/TSM-1XX-XX-XXX-XX-X-XXX-X-MKT.pdf?src-supplier=Digi-Key; ComponentLink3Description: http://www.samtec.com/documents/webfiles/cpdf/TSM-1XX-XX-XXX-XX-X-XXX-X-MKT.pdf?src-supplier=Digi-Key
footprint *SAMTEC-TSM-113-01-X-DV
pins: 1, 2, 3, 4, 5, 6, 7, 8, 9, 10, 11, 12, 13, 14, 15, 16, 17, 18, 19, 20, 21, 22, 23, 24, 25, 26, 27, 28

## Schottky Dual Common Cathode_0
designator D?
pins: 1 A1, 2 A2, 3 K

## SD6271LR-G1
designator U?  (value not drawn)
Step-Up Positive Adjustable 1 2A 1MHz SOT-23-6 DC-DC Converters RoHS; Value: 2A 1Mhz boost; Case/Package: SOT-23-6; Manufacturer Part Number: SD6271LR-G1
footprint SOT-23-6
pins: 1 LX, 2 GND, 3 FB, 4 EN, 5 VCC, 6 OC

## SDA04H1SBD
designator S?
SWITCH SLIDE DIP SPST 25MA 24V; Manufacturer: ITT C&K; Manufacturer Part Number: SDA04H1SBD; Body Material: Polyphenylene; Mechanical Life: 1000Cycles; Actuator Material: Polyamide; Number of Positions: 4; Max Current Rating: 100mA; Contact Resistance: 50mR; Actuator Type: Slide (Standard); Pitch: 0.1inch; Actuator Length: 1mm; Washable: Yes; Supplier 1: Digi-Key; Stock 1: 11767; Pricing 1: 1=1.66, 10=1.563, 35=1.4994, 70=1.4036, 105=1.3717, 280=1.2122, 525=1.1484, 1015=1.0208, 5005=0.8932 (USD); Mount: Surface Mount; Case/Package: DIP; Contact Material: Copper; Contact Plating: Gold; Min Operating Temperature: -40°C; Max Operating Temperature: 85°C; Throw Configuration: SPST; Packaging: Rail/Tube; Current Rating: 25mA; Package Quantity: 35; Voltage Rating (DC): 24V; Max Voltage Rating (DC): 24V; Termination: Gull Wing; Electrical Life: 1000Cycles; Number of Circuits: 4; Orientation: Straight; Length: 0.476inch; Terminal Pitch: 2.54mm; Depth: 9.3mm; Radiation Hardening: No; REACH SVHC: No SVHC; Lead Free: Lead Free; ComponentLink1URL: https://www.ckswitches.com/media/1327/sda.pdf?src-supplier=Digi-Key; ComponentLink1Description: https://www.ckswitches.com/media/1327/sda.pdf?src-supplier=Digi-Key; ComponentLink2URL: http://www.farnell.com/datasheets/1839864.pdf?src-supplier=Element14; ComponentLink2Description: http://www.farnell.com/datasheets/1839864.pdf?src-supplier=Element14; Supplier Part Number 1: CKN6068-ND
footprint sda04h1sbd
pins: 1, 2, 3, 4, 5, 6, 7, 8

## SIM800A
designator U?
Integrated Circuit; Manufacturer_Name: SIMCOM; Manufacturer Part Number: SIM800A; Datasheet Link: http://simcom.ee/documents/SIM800/SIM800_Hardware%20Design_V1.08.pdf
footprint sim808
pins: 1 PWRKEY, 2 GND, 3 DTR, 4 RI, 5 DCD, 6 PCM_OUT, 7 CTS, 8 RTS, 9 TXD, 10 RXD, 11 GPIO17, 12 PCM_IN, 13 GPIO19, 14 PSM(SYNC, 15 VDD_EXT, 16 RESET, 17 GND, 18 GND, 19 MICP, 20 MICN, 21 SPKP, 22 SPKN, 23 KPLED, 24 USB_VBUS, 25 ADC, 26 VRTC, 27 USB_DP, 28 USB_DN, 29 GND_4, 30 SIM_VDD, 31 SIM_DATA, 32 SIM_CLK, 33 SIM_RST, 34 SIM_DET, 35 PWM0, 36 PWM1, 37 SDA, 38 SCL, 39 GND, 40 KBR4, 41 KBR3, 42 KBR2, 43 KBR1, 44 KBR0, 45 GND, 46 GND, 47 KBC4, 48 KBC3, 49 KBC2, 50 KBC1, 51 KBC0, 52 NETLIGHT, 53 BT_ANT, 54 GND, 55 VBAT, 56 VBAT, 57 VBAT, 58 GND, 59 GND, 60 GSM_ANT, 61 GND, 62 GND, 63 GND, 64 GND, 65 GND, 66 STATUS, 67 RF_SYNC, 68 PCM_CLK

## SIM800C
designator U?
Integrated Circuit; Manufacturer Name: SIMCOM; Datasheet Link: http://www.sabreadv.com/wp-content/uploads/SIM800C_Hardware_Design_V1.00.pdf; Manufacturer Part Number: SIM800C
footprint SIM800C
pins: 1 UART1_TXD, 2 UART1_RXD, 3 UART1_RTS, 4 UART1_CTS, 5 UART1_DCD, 6 UART1_DTR, 7 UART1_RI, 8 GND, 9 MICP, 10 MICN, 11 SPKP, 12 SPKN, 13 GND, 14 SIM1_DET, 15 SIM1_DATA, 16 SIM1_CLK, 17 SIM1_RST, 18 SIM1_VDD, 19 GND, 20 BT_ANT, 21 GND, 22 UART2_TXD, 23 UART2_RXD, 24 USB_VBUS, 25 USB_DP, 26 USB_DM, 27 GND, 28 VRTC, 29 RF_SYNC, 30 GND, 31 GND, 32 GSM_ANT, 33 GND, 34 VBAT_1, 35 VBAT_2, 36 GND, 37 GND, 38 ADC, 39 PWRKEY, 40 VDD_EXT, 41 NETLIGHT, 42 STATUS

## SLIDE SWITCH SPDT
designator S?
SLIDE SWITCH SPDT 2.54MM
pins: 1, 2, 3
text: SPDT; SLIDE SWITCH

## SM6T10CA
designator D?  Direction: Bidirectional  Manufacturer Part Number: SM6T10CA  Case/Package: SMB (DO-214AA)  (hidden comment: *)
Manufacturer: STMicroelectronics; Clamping Voltage: 18.6V; Peak Pulse Power: 600W; Reverse Standoff Voltage: 8.55V; Peak Pulse Current: 215A; Min Breakdown Voltage: 9.5V; Breakdown Voltage: 10.5V; Max Surge Current: 41A; Number of Bidirectional Channels: 1; Power Line Protection: No; Test Current: 1mA; Max Reverse Leakage Current: 20uA; Element Configuration: Single; Capacitance: 2.8nF; Voltage Rating (DC): 10V; ComponentLink1URL: https://www.verical.com/server-webapp/html/getDatasheet?partID=98609&src-supplier=Verical; ComponentLink1Description: https://www.verical.com/server-webapp/html/getDatasheet?partID=98609&src-supplier=Verical; ComponentLink2URL: http://www.farnell.com/datasheets/1761324.pdf?src-supplier=Element14; ComponentLink2Description: http://www.farnell.com/datasheets/1761324.pdf?src-supplier=Element14; ComponentLink3URL: http://www.jameco.com/Jameco/Products/ProdDS/1394494.pdf?src-supplier=Jameco; ComponentLink3Description: http://www.jameco.com/Jameco/Products/ProdDS/1394494.pdf?src-supplier=Jameco; ComponentLink4URL: http://www.st.com/content/ccc/resource/technical/document/datasheet/6f/2d/a6/9e/56/51/48/15/CD00000725.pdf/files/CD00000725.pdf/jcr:content/translations/en.CD00000725.pdf?src-supplier=Digi-Key; ComponentLink4Description: http://www.st.com/content/ccc/resource/technical/document/datasheet/6f/2d/a6/9e/56/51/48/15/CD00000725.pdf/files/CD00000725.pdf/jcr:content/translations/en.CD00000725.pdf?src-supplier=Digi-Key; ComponentLink5URL: http://www.st.com/st-web-ui/static/active/en/resource/technical/document/datasheet/CD00000725.pdf?src-supplier=Avnet; ComponentLink5Description: http://www.st.com/st-web-ui/static/active/en/resource/technical/document/datasheet/CD00000725.pdf?src-supplier=Avnet; ComponentLink6URL: http://www.st.com/st-web-ui/static/active/en/resource/technical/document/datasheet/CD00000725.pdf?src-supplier=Future+Electronics; ComponentLink6Description: http://www.st.com/st-web-ui/static/active/en/resource/technical/document/datasheet/CD00000725.pdf?src-supplier=Future+Electronics; ComponentLink7URL: https://www.distrelec.biz/Web/Downloads/ta/_e/xbSM6T_data_e.pdf?mime=application%2Fpdf&src-supplier=Distrelec; ComponentLink7Description: https://www.distrelec.biz/Web/Downloads/ta/_e/xbSM6T_data_e.pdf?mime=application%2Fpdf&src-supplier=Distrelec; Supplier 1: Digi-Key; Stock 1: 2460; Pricing 1: 1=0.48, 10=0.408, 100=0.3046, 500=0.2393, 1000=0.1849 (USD); Mount: Surface Mount; Number of Pins: 2; Min Operating Temperature: -55°C; Max Operating Temperature: 150°C; Packaging: Tape and Reel; Package Quantity: 1; Polarity: Bidirectional; Operating Supply Voltage: 8.55V; Composition: Zener; Reverse Breakdown Voltage: 9.5V; Number of Elements: 1; Number of Channels: 1; Leakage Current: 20uA; Termination: SMD/SMT; Max Breakdown Voltage: 10.5V; Power Dissipation: 600W; Length: 4.6mm; Height: 2.45mm; Width: 3.95mm; Radiation Hardening: No; Lead Free: Lead Free; REACH SVHC: No SVHC; ComponentLink8URL: https://www.verical.com/server-webapp/html/getDatasheet?partID=160132&src-supplier=Verical; ComponentLink8Description: https://www.verical.com/server-webapp/html/getDatasheet?partID=160132&src-supplier=Verical; ComponentLink9URL: http://datasheet.iiic.cc/stmicroelectronics/SM6T10CA.pdf?src-supplier=IIIC; ComponentLink9Description: http://datasheet.iiic.cc/stmicroelectronics/SM6T10CA.pdf?src-supplier=IIIC; Supplier Part Number 1: 497-7427-6-ND
footprint smb
pins: 1, 2

## SM6T15CA
designator D?  Direction: Bidirectional  Manufacturer Part Number: SM6T15CA  (hidden comment: *)
Manufacturer: STMicroelectronics; Reverse Standoff Voltage: 12.8V; Clamping Voltage: 27.2V; Peak Pulse Power: 600W; Peak Pulse Current: 147A; Min Breakdown Voltage: 14.3V; Breakdown Voltage: 15V; Test Current: 1mA; Number of Elements: 1; Power Line Protection: No; Max Reverse Leakage Current: 200nA; Element Configuration: Single; Max Breakdown Voltage: 15.8V; Capacitance: 1.9nF; Supplier 1: Digi-Key; Stock 1: 7500; Pricing 1: 2500=0.1637, 5000=0.1531, 12500=0.1426, 25000=0.1352, 62500=0.132 (USD); Mount: Surface Mount; Case/Package: SMB (DO-214AA); Number of Pins: 2; Min Operating Temperature: -55°C; Max Operating Temperature: 150°C; Packaging: Tape and Reel; Package Quantity: 1; Polarity: Bidirectional; Max Surge Current: 1mA; Operating Supply Voltage: 12.8V; Reverse Breakdown Voltage: 14.3V; Number of Bidirectional Channels: 1; Leakage Current: 200nA; Composition: Zener; Termination: SMD/SMT; Power Dissipation: 600W; ESD Protection: No; Voltage Rating (DC): 15V; Length: 4.6mm; Height: 2.45mm; Width: 3.95mm; Radiation Hardening: No; REACH SVHC: No SVHC; Lead Free: Lead Free; ComponentLink1URL: https://www.verical.com/server-webapp/html/getDatasheet?partID=98609&src-supplier=Verical; ComponentLink1Description: https://www.verical.com/server-webapp/html/getDatasheet?partID=98609&src-supplier=Verical; ComponentLink2URL: http://www.farnell.com/datasheets/1761324.pdf?src-supplier=Element14; ComponentLink2Description: http://www.farnell.com/datasheets/1761324.pdf?src-supplier=Element14; ComponentLink3URL: http://www.jameco.com/Jameco/Products/ProdDS/1394494.pdf?src-supplier=Jameco; ComponentLink3Description: http://www.jameco.com/Jameco/Products/ProdDS/1394494.pdf?src-supplier=Jameco; ComponentLink4URL: http://www.st.com/content/ccc/resource/technical/document/datasheet/6f/2d/a6/9e/56/51/48/15/CD00000725.pdf/files/CD00000725.pdf/jcr:content/translations/en.CD00000725.pdf?src-supplier=Digi-Key; ComponentLink4Description: http://www.st.com/content/ccc/resource/technical/document/datasheet/6f/2d/a6/9e/56/51/48/15/CD00000725.pdf/files/CD00000725.pdf/jcr:content/translations/en.CD00000725.pdf?src-supplier=Digi-Key; ComponentLink5URL: http://www.st.com/st-web-ui/static/active/en/resource/technical/document/datasheet/CD00000725.pdf?src-supplier=Avnet; ComponentLink5Description: http://www.st.com/st-web-ui/static/active/en/resource/technical/document/datasheet/CD00000725.pdf?src-supplier=Avnet; ComponentLink6URL: http://www.st.com/st-web-ui/static/active/en/resource/technical/document/datasheet/CD00000725.pdf?src-supplier=Future+Electronics; ComponentLink6Description: http://www.st.com/st-web-ui/static/active/en/resource/technical/document/datasheet/CD00000725.pdf?src-supplier=Future+Electronics; ComponentLink7URL: https://www.distrelec.biz/Web/Downloads/ta/_e/xbSM6T_data_e.pdf?mime=application%2Fpdf&src-supplier=Distrelec; ComponentLink7Description: https://www.distrelec.biz/Web/Downloads/ta/_e/xbSM6T_data_e.pdf?mime=application%2Fpdf&src-supplier=Distrelec; Supplier Part Number 1: 497-2994-2-ND
footprint smb
pins: 1, 2

## SM7075
designator U?
Mfr. No: SM7075-12; Value: 12V/300mA; Package: DIP8
pins: 1 GND, 2 GND, 3 NC, 4 HVDD, 5 D, 6 D, 7 D, 8 D

## SMAJ6.5CA
designator D?  Manufacturer Part Number: SMAJ6.5CA
ESD Suppressors / TVS Diodes 400W 6.5V 5% Bi-Directional; Manufacturer: Littelfuse; Min Breakdown Voltage: 7.22V; Clamping Voltage: 11.2V; Polarity: Bidirectional; Peak Pulse Current: 35.7A; Test Current: 10mA; Number of Elements: 1; Leakage Current: 1mA; Power Line Protection: No; Max Breakdown Voltage: 7.98V; Max Power Dissipation: 3.3W; Supplier 1: Mouser; Stock 1: 13830; Pricing 1: 1=0.4, 10=0.342, 50=0.342, 100=0.24, 500=0.199, 1000=0.137, 5000=0.125, 10000=0.125, 25000=0.108 (USD); Mount: Surface Mount; Number of Pins: 2; Min Operating Temperature: -55°C; Max Operating Temperature: 150°C; Packaging: Tape and Reel; Reverse Standoff Voltage: 6.5V; Peak Pulse Power: 400W; Breakdown Voltage: 7.22V; Package Quantity: 5000; Max Surge Current: 35.7A; Reverse Breakdown Voltage: 7.22V; Termination: SMD/SMT; Direction: Bidirectional; Operating Supply Voltage: 6.5V; Number of Bidirectional Channels: 1; Number of Channels: 1; Voltage Rating (DC): 6.5V; Case/Package: DO-214AC-2; Power Dissipation: 400W; Length: 5.28mm; Height: 2.29mm; Width: 2.79mm; Lead Free: Lead Free; REACH SVHC: No SVHC; ComponentLink1URL: http://www.littelfuse.com/~/media/electronics/datasheets/tvs_diodes/littelfuse_tvs_diode_smaj_datasheet.pdf.pdf?src-supplier=Digi-Key; ComponentLink1Description: http://www.littelfuse.com/~/media/electronics/datasheets/tvs_diodes/littelfuse_tvs_diode_smaj_datasheet.pdf.pdf?src-supplier=Digi-Key; ComponentLink2URL: http://www.littelfuse.com/data/en/Data_Sheets/Littelfuse_TVS-Diode_SMAJ.pdf?src-supplier=Future+Electronics; ComponentLink2Description: http://www.littelfuse.com/data/en/Data_Sheets/Littelfuse_TVS-Diode_SMAJ.pdf?src-supplier=Future+Electronics; Supplier Part Number 1: 576-SMAJ6.5CA
footprint DO-214AC(SMA)
pins: 1, 2

## SMF15CT1G
designator D?
Manufacturer: ON Semiconductor; Manufacturer Part Number: SMF15CT1G; Number of Elements: 5; Capacitance: 33pF; Operating Supply Voltage: 15V; Max Surge Current: 5A; Reverse Breakdown Voltage: 17V; Direction: Unidirectional; Clamping Voltage: 29V; Peak Pulse Power: 100W; Power Line Protection: No; Max Breakdown Voltage: 19V; Leakage Current: 1uA; Element Configuration: Common Anode; ESD Protection: Yes; Test Current: 1mA; Supplier 1: Digi-Key; Stock 1: 2972; Pricing 1: 1=0.36, 10=0.289, 100=0.1971, 500=0.1478, 1000=0.1109 (USD); Case/Package: SC; Number of Pins: 6; Min Operating Temperature: -40°C; Max Operating Temperature: 125°C; Package Quantity: 1; Packaging: Tape and Reel; Number of Unidirectional Channels: 5; Reverse Standoff Voltage: 15V; Min Breakdown Voltage: 17V; Polarity: Unidirectional; Number of Channels: 5; Breakdown Voltage: 17V; Termination: SMD/SMT; Working Voltage: 15V; Power Dissipation: 100W; Max Reverse Leakage Current: 1uA; Peak Pulse Current: 5A; Voltage Rating (DC): 15V; Composition: Zener; Length: 2mm; Height: 1mm; Depth: 1.25mm; Width: 1.35mm; Radiation Hardening: No; Lead Free: Lead Free; ComponentLink1URL: http://www.onsemi.com/pub/Collateral/SMF05C-D.PDF?src-supplier=Digi-Key; ComponentLink1Description: http://www.onsemi.com/pub/Collateral/SMF05C-D.PDF?src-supplier=Digi-Key; ComponentLink2URL: http://www.onsemi.com/pub/Collateral/SMF05C-D.PDF?src-supplier=Avnet; ComponentLink2Description: http://www.onsemi.com/pub/Collateral/SMF05C-D.PDF?src-supplier=Avnet; ComponentLink3URL: http://www.onsemi.com/pub_link/Collateral/SMF05C-D.PDF?src-supplier=Future+Electronics; ComponentLink3Description: http://www.onsemi.com/pub_link/Collateral/SMF05C-D.PDF?src-supplier=Future+Electronics; Supplier Part Number 1: SMF15CT1GOSCT-ND
footprint SOT363-6
pins: 1 Cathode, 2 Anode, 3 Cathode, 4 Cathode, 5 Cathode, 6 Cathode